# EAGLE library part PTN3365 (library Public)
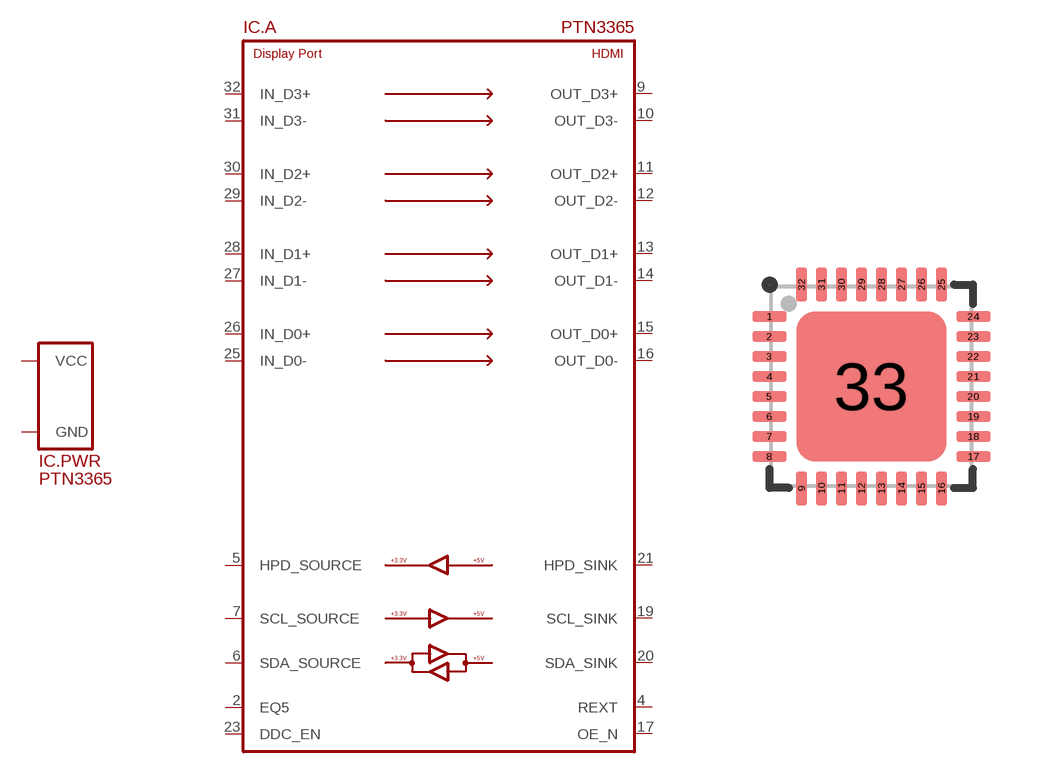
[diagram p230: symbol with the pads of SOT617-3; footprint SOT617-3]

Designator prefix IC; gates .PWR=SUPPLY_VCC/GND .A=PTN3365

## PTN3365  [SOT617-3]
1  .PWR:VCC
2  .A:EQ5
3  .PWR:GND
4  .A:REXT
5  .A:HPD_SOURCE
6  .A:SDA_SOURCE
7  .A:SCL_SOURCE
8  .PWR:VCC
9  .A:OUT_D3+
10  .A:OUT_D3-
11  .A:OUT_D2+
12  .A:OUT_D2-
13  .A:OUT_D1+
14  .A:OUT_D1-
15  .A:OUT_D0+
16  .A:OUT_D0-
17  .A:OE_N
18  .PWR:VCC
19  .A:SCL_SINK
20  .A:SDA_SINK
21  .A:HPD_SINK
22  .PWR:GND
23  .A:DDC_EN
24  .PWR:VCC
25  .A:IN_D0-
26  .A:IN_D0+
27  .A:IN_D1-
28  .A:IN_D1+
29  .A:IN_D2-
30  .A:IN_D2+
31  .A:IN_D3-
32  .A:IN_D3+
33  .PWR:GND

## Footprint SOT617-3 (pad centres in mm)
smd 0.85 x 0.27: 1 -2.55,1.75; 2 -2.55,1.25; 3 -2.55,0.75; 4 -2.55,0.25; 5 -2.55,-0.25; 6 -2.55,-0.75; 7 -2.55,-1.25; 8 -2.55,-1.75; 17 2.55,-1.75; 18 2.55,-1.25; 19 2.55,-0.75; 20 2.55,-0.25; 21 2.55,0.25; 22 2.55,0.75; 23 2.55,1.25; 24 2.55,1.75
smd 0.27 x 0.85: 9 -1.75,-2.55; 10 -1.25,-2.55; 11 -0.75,-2.55; 12 -0.25,-2.55; 13 0.25,-2.55; 14 0.75,-2.55; 15 1.25,-2.55; 16 1.75,-2.55; 25 1.75,2.55; 26 1.25,2.55; 27 0.75,2.55; 28 0.25,2.55; 29 -0.25,2.55; 30 -0.75,2.55; 31 -1.25,2.55; 32 -1.75,2.55
smd 3.75 x 3.75: 33 0,0